# Altium schematic symbol library DF51K-12DP-2DS(805).SchLib: 1 symbol
Pins are listed as number, name and electrical type; pins without a type are passive.

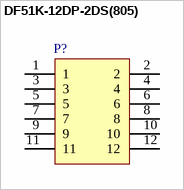
[diagram p0: symbol DF51K-12DP-2DS(805)]

## DF51K-12DP-2DS(805)
designator P?, comment OK  (value not drawn)
Hirose 12 Pin, Right Angle Pin Header
pins: 1, 2, 3, 4, 5, 6, 7, 8, 9, 10, 11, 12